# Altium footprint library Connector_Wire.PcbLib: 326 footprints (part 5 of 21)
Each footprint in its own frame and in the unit in brackets; x right, y up, seen from the top. Pads: shape width x height; smd on the part's side, far side on the other; paste and mask are expansions set on the pad; w line width, h text height; cw(c..) or ccw(c..) is an arc to the next point about the centre after c.
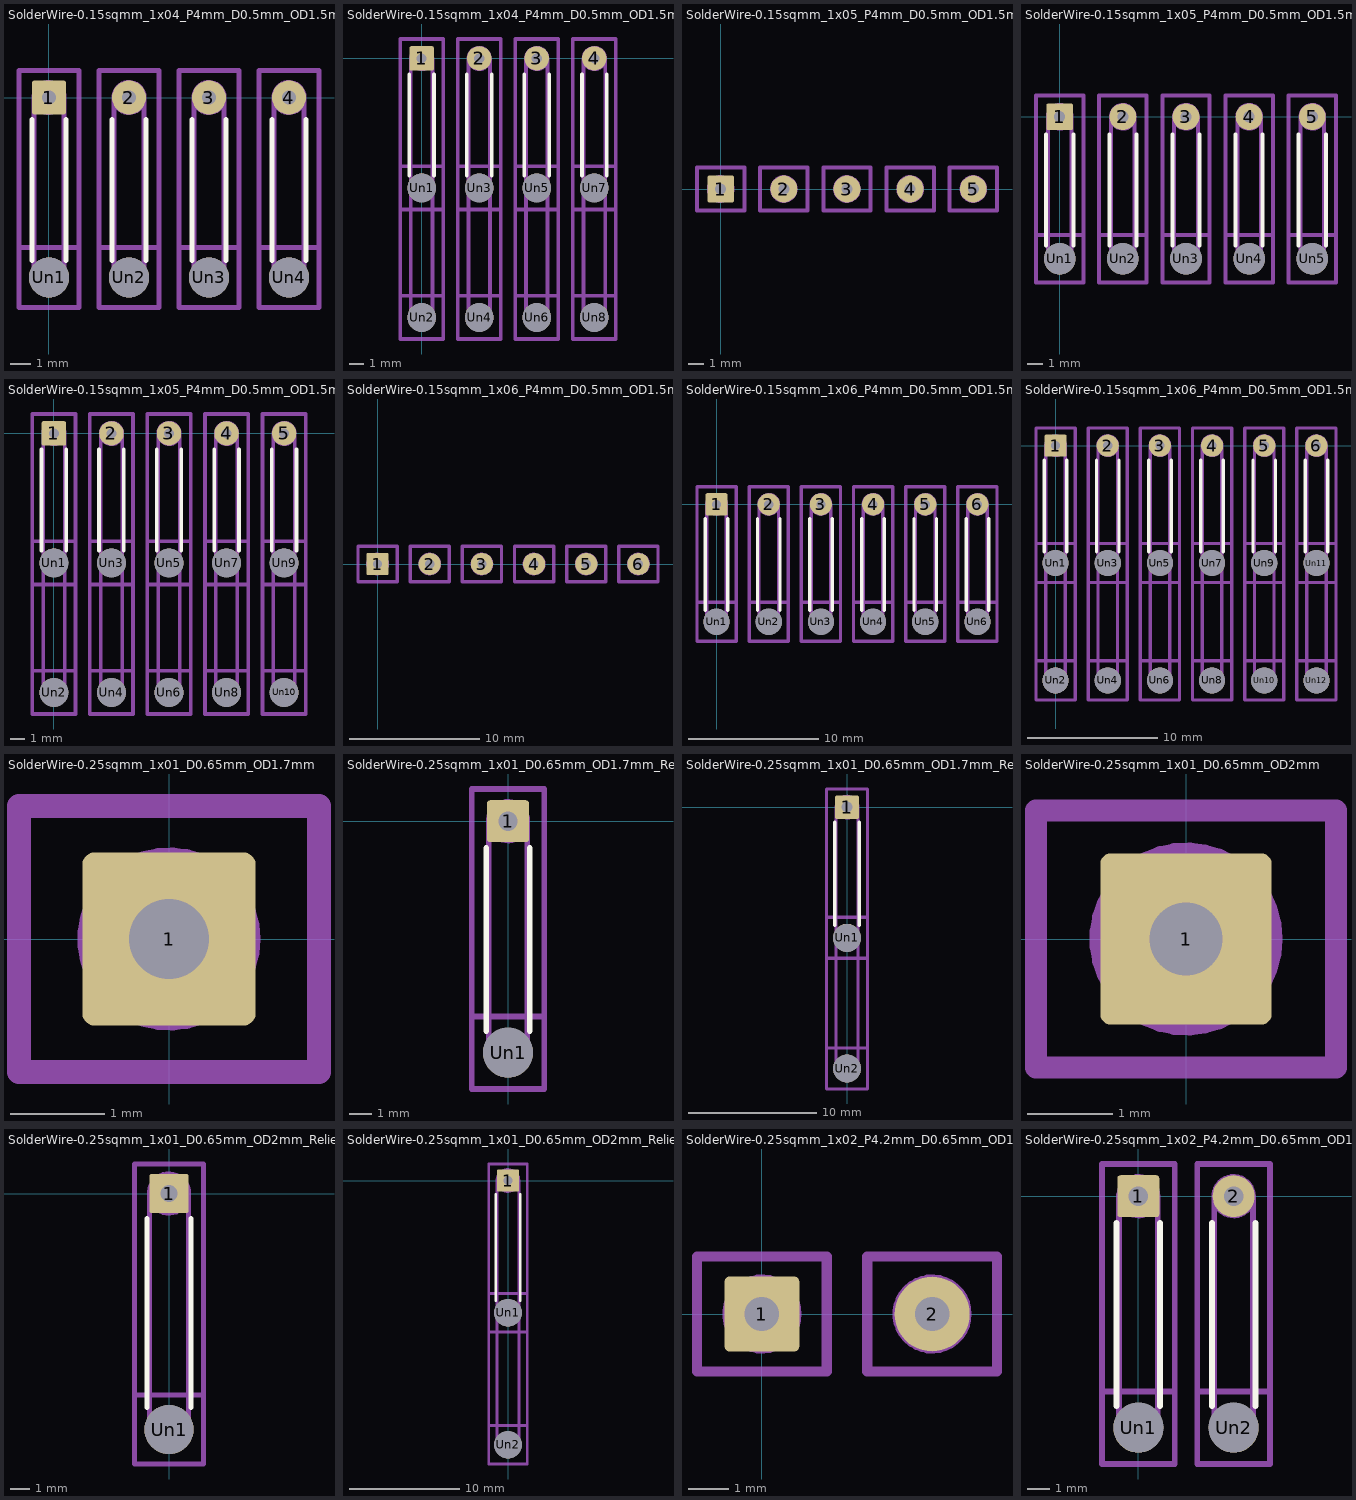
[diagram p4: the footprints below, top view; thin cyan lines are the x and y axes]

## SolderWire-0.15sqmm_1x04_P4mm_D0.5mm_OD1.5mm_Relief [mm]
pads (8):
  rrect15% 1.7x1.7 hole 0.7: 1(0,0)
  round 1.7 hole 0.7: 2(4,0) 3(8,0) 4(12,0)
  round 2 hole 2: Un1(0,-9) Un2(4,-9) Un3(8,-9) Un4(12,-9)
F.SilkS:
  lines w0.254: -0.86,-8.14 -0.86,-1.11 ; 0.86,-8.14 0.86,-1.11 ; 3.14,-8.14 3.14,-1.11 ; 4.86,-8.14 4.86,-1.11 ; 7.14,-8.14 7.14,-1.11 ; 8.86,-8.14 8.86,-1.11 ; 11.14,-8.14 11.14,-1.11 ; 12.86,-8.14 12.86,-1.11
Top Assembly:
  circle w0.254: c12,-9 r0.75
  circle w0.254: c12,0 r0.75
  circle w0.254: c8,-9 r0.75
  circle w0.254: c8,0 r0.75
  circle w0.254: c4,-9 r0.75
  circle w0.254: c4,0 r0.75
  circle w0.254: c0,-9 r0.75
  circle w0.254: c0,0 r0.75
  lines w0.254: -0.75,-9 -0.75,0 ; 0.75,-9 0.75,0 ; 3.25,-9 3.25,0 ; 4.75,-9 4.75,0 ; 7.25,-9 7.25,0 ; 8.75,-9 8.75,0 ; 11.25,-9 11.25,0 ; 12.75,-9 12.75,0
  text "'.Designator'" at 6.84,-8.547 h1
Top Courtyard:
  lines w0.254: -1.5,-10.5 1.5,-10.5 1.5,1.35 -1.5,1.35 -1.5,-10.5 ; 2.5,-10.5 5.5,-10.5 5.5,1.35 2.5,1.35 2.5,-10.5 ; 6.5,-10.5 9.5,-10.5 9.5,1.35 6.5,1.35 6.5,-10.5 ; 10.5,-10.5 13.5,-10.5 13.5,1.35 10.5,1.35 10.5,-10.5
Bottom Courtyard:
  lines w0.254: -1.5,-10.5 1.5,-10.5 1.5,-7.5 -1.5,-7.5 -1.5,-10.5 ; 2.5,-10.5 5.5,-10.5 5.5,-7.5 2.5,-7.5 2.5,-10.5 ; 6.5,-10.5 9.5,-10.5 9.5,-7.5 6.5,-7.5 6.5,-10.5 ; 10.5,-10.5 13.5,-10.5 13.5,-7.5 10.5,-7.5 10.5,-10.5
Top Designator:
  text ".Designator" at -1.618,-5.083 h1.52

## SolderWire-0.15sqmm_1x04_P4mm_D0.5mm_OD1.5mm_Relief2x [mm]
pads (12):
  rrect15% 1.7x1.7 hole 0.7: 1(0,0)
  round 1.7 hole 0.7: 2(4,0) 3(8,0) 4(12,0)
  round 2 hole 2: Un1(0,-9) Un2(0,-18) Un3(4,-9) Un4(4,-18) Un5(8,-9) Un6(8,-18) Un7(12,-9) Un8(12,-18)
F.SilkS:
  lines w0.254: -0.86,-8.14 -0.86,-1.11 ; 0.86,-8.14 0.86,-1.11 ; 3.14,-8.14 3.14,-1.11 ; 4.86,-8.14 4.86,-1.11 ; 7.14,-8.14 7.14,-1.11 ; 8.86,-8.14 8.86,-1.11 ; 11.14,-8.14 11.14,-1.11 ; 12.86,-8.14 12.86,-1.11
B.SilkS:
  lines w0.254: -0.86,-17.14 -0.86,-9.86 ; 0.86,-17.14 0.86,-9.86 ; 3.14,-17.14 3.14,-9.86 ; 4.86,-17.14 4.86,-9.86 ; 7.14,-17.14 7.14,-9.86 ; 8.86,-17.14 8.86,-9.86 ; 11.14,-17.14 11.14,-9.86 ; 12.86,-17.14 12.86,-9.86
Top Assembly:
  circle w0.254: c12,-18 r0.75
  circle w0.254: c12,-9 r0.75
  circle w0.254: c12,0 r0.75
  circle w0.254: c8,-18 r0.75
  circle w0.254: c8,-9 r0.75
  circle w0.254: c8,0 r0.75
  circle w0.254: c4,-18 r0.75
  circle w0.254: c4,-9 r0.75
  circle w0.254: c4,0 r0.75
  circle w0.254: c0,-18 r0.75
  circle w0.254: c0,-9 r0.75
  circle w0.254: c0,0 r0.75
  lines w0.254: -0.75,-9 -0.75,0 ; 0.75,-9 0.75,0 ; 3.25,-9 3.25,0 ; 4.75,-9 4.75,0 ; 7.25,-9 7.25,0 ; 8.75,-9 8.75,0 ; 11.25,-9 11.25,0 ; 12.75,-9 12.75,0
  text "'.Designator'" at 6.84,-8.547 h1
Bottom Assembly:
  circle w0.254: c12,-18 r0.75
  circle w0.254: c12,-9 r0.75
  circle w0.254: c8,-18 r0.75
  circle w0.254: c8,-9 r0.75
  circle w0.254: c4,-18 r0.75
  circle w0.254: c4,-9 r0.75
  circle w0.254: c0,-18 r0.75
  circle w0.254: c0,-9 r0.75
  lines w0.254: -0.75,-18 -0.75,-9 ; 0.75,-18 0.75,-9 ; 3.25,-18 3.25,-9 ; 4.75,-18 4.75,-9 ; 7.25,-18 7.25,-9 ; 8.75,-18 8.75,-9 ; 11.25,-18 11.25,-9 ; 12.75,-18 12.75,-9
Top Courtyard:
  lines w0.254: -1.5,-19.5 1.5,-19.5 1.5,-16.5 -1.5,-16.5 -1.5,-19.5 ; -1.5,-10.5 1.5,-10.5 1.5,1.35 -1.5,1.35 -1.5,-10.5 ; 2.5,-19.5 5.5,-19.5 5.5,-16.5 2.5,-16.5 2.5,-19.5 ; 2.5,-10.5 5.5,-10.5 5.5,1.35 2.5,1.35 2.5,-10.5 ; 6.5,-19.5 9.5,-19.5 9.5,-16.5 6.5,-16.5 6.5,-19.5 ; 6.5,-10.5 9.5,-10.5 9.5,1.35 6.5,1.35 6.5,-10.5 ; 10.5,-19.5 13.5,-19.5 13.5,-16.5 10.5,-16.5 10.5,-19.5 ; 10.5,-10.5 13.5,-10.5 13.5,1.35 10.5,1.35 10.5,-10.5
Bottom Courtyard:
  lines w0.254: -1.5,-19.5 1.5,-19.5 1.5,-7.5 -1.5,-7.5 -1.5,-19.5 ; 2.5,-19.5 5.5,-19.5 5.5,-7.5 2.5,-7.5 2.5,-19.5 ; 6.5,-19.5 9.5,-19.5 9.5,-7.5 6.5,-7.5 6.5,-19.5 ; 10.5,-19.5 13.5,-19.5 13.5,-7.5 10.5,-7.5 10.5,-19.5
Top Designator:
  text ".Designator" at -1.618,-9.583 h1.52

## SolderWire-0.15sqmm_1x05_P4mm_D0.5mm_OD1.5mm [mm]
pads (5):
  rrect15% 1.7x1.7 hole 0.7: 1(0,0)
  round 1.7 hole 0.7: 2(4,0) 3(8,0) 4(12,0) 5(16,0)
Top Assembly:
  circle w0.254: c16,0 r0.75
  circle w0.254: c12,0 r0.75
  circle w0.254: c8,0 r0.75
  circle w0.254: c4,0 r0.75
  circle w0.254: c0,0 r0.75
  text "'.Designator'" at 6.459,-0.322 h0.38
Top Courtyard:
  lines w0.254: -1.5,-1.35 1.5,-1.35 1.5,1.35 -1.5,1.35 -1.5,-1.35 ; 2.5,-1.35 5.5,-1.35 5.5,1.35 2.5,1.35 2.5,-1.35 ; 6.5,-1.35 9.5,-1.35 9.5,1.35 6.5,1.35 6.5,-1.35 ; 10.5,-1.35 13.5,-1.35 13.5,1.35 10.5,1.35 10.5,-1.35 ; 14.5,-1.35 17.5,-1.35 17.5,1.35 14.5,1.35 14.5,-1.35
Top Designator:
  text ".Designator" at 0.382,-0.508 h1.52

## SolderWire-0.15sqmm_1x05_P4mm_D0.5mm_OD1.5mm_Relief [mm]
pads (10):
  rrect15% 1.7x1.7 hole 0.7: 1(0,0)
  round 1.7 hole 0.7: 2(4,0) 3(8,0) 4(12,0) 5(16,0)
  round 2 hole 2: Un1(0,-9) Un2(4,-9) Un3(8,-9) Un4(12,-9) Un5(16,-9)
F.SilkS:
  lines w0.254: -0.86,-8.14 -0.86,-1.11 ; 0.86,-8.14 0.86,-1.11 ; 3.14,-8.14 3.14,-1.11 ; 4.86,-8.14 4.86,-1.11 ; 7.14,-8.14 7.14,-1.11 ; 8.86,-8.14 8.86,-1.11 ; 11.14,-8.14 11.14,-1.11 ; 12.86,-8.14 12.86,-1.11 ; 15.14,-8.14 15.14,-1.11 ; 16.86,-8.14 16.86,-1.11
Top Assembly:
  circle w0.254: c16,-9 r0.75
  circle w0.254: c16,0 r0.75
  circle w0.254: c12,-9 r0.75
  circle w0.254: c12,0 r0.75
  circle w0.254: c8,-9 r0.75
  circle w0.254: c8,0 r0.75
  circle w0.254: c4,-9 r0.75
  circle w0.254: c4,0 r0.75
  circle w0.254: c0,-9 r0.75
  circle w0.254: c0,0 r0.75
  lines w0.254: -0.75,-9 -0.75,0 ; 0.75,-9 0.75,0 ; 3.25,-9 3.25,0 ; 4.75,-9 4.75,0 ; 7.25,-9 7.25,0 ; 8.75,-9 8.75,0 ; 11.25,-9 11.25,0 ; 12.75,-9 12.75,0 ; 15.25,-9 15.25,0 ; 16.75,-9 16.75,0
  text "'.Designator'" at 8.84,-8.547 h1
Top Courtyard:
  lines w0.254: -1.5,-10.5 1.5,-10.5 1.5,1.35 -1.5,1.35 -1.5,-10.5 ; 2.5,-10.5 5.5,-10.5 5.5,1.35 2.5,1.35 2.5,-10.5 ; 6.5,-10.5 9.5,-10.5 9.5,1.35 6.5,1.35 6.5,-10.5 ; 10.5,-10.5 13.5,-10.5 13.5,1.35 10.5,1.35 10.5,-10.5 ; 14.5,-10.5 17.5,-10.5 17.5,1.35 14.5,1.35 14.5,-10.5
Bottom Courtyard:
  lines w0.254: -1.5,-10.5 1.5,-10.5 1.5,-7.5 -1.5,-7.5 -1.5,-10.5 ; 2.5,-10.5 5.5,-10.5 5.5,-7.5 2.5,-7.5 2.5,-10.5 ; 6.5,-10.5 9.5,-10.5 9.5,-7.5 6.5,-7.5 6.5,-10.5 ; 10.5,-10.5 13.5,-10.5 13.5,-7.5 10.5,-7.5 10.5,-10.5 ; 14.5,-10.5 17.5,-10.5 17.5,-7.5 14.5,-7.5 14.5,-10.5
Top Designator:
  text ".Designator" at 0.382,-5.083 h1.52

## SolderWire-0.15sqmm_1x05_P4mm_D0.5mm_OD1.5mm_Relief2x [mm]
pads (15):
  rrect15% 1.7x1.7 hole 0.7: 1(0,0)
  round 1.7 hole 0.7: 2(4,0) 3(8,0) 4(12,0) 5(16,0)
  round 2 hole 2: Un1(0,-9) Un2(0,-18) Un3(4,-9) Un4(4,-18) Un5(8,-9) Un6(8,-18) Un7(12,-9) Un8(12,-18) Un9(16,-9) Un10(16,-18)
F.SilkS:
  lines w0.254: -0.86,-8.14 -0.86,-1.11 ; 0.86,-8.14 0.86,-1.11 ; 3.14,-8.14 3.14,-1.11 ; 4.86,-8.14 4.86,-1.11 ; 7.14,-8.14 7.14,-1.11 ; 8.86,-8.14 8.86,-1.11 ; 11.14,-8.14 11.14,-1.11 ; 12.86,-8.14 12.86,-1.11 ; 15.14,-8.14 15.14,-1.11 ; 16.86,-8.14 16.86,-1.11
B.SilkS:
  lines w0.254: -0.86,-17.14 -0.86,-9.86 ; 0.86,-17.14 0.86,-9.86 ; 3.14,-17.14 3.14,-9.86 ; 4.86,-17.14 4.86,-9.86 ; 7.14,-17.14 7.14,-9.86 ; 8.86,-17.14 8.86,-9.86 ; 11.14,-17.14 11.14,-9.86 ; 12.86,-17.14 12.86,-9.86 ; 15.14,-17.14 15.14,-9.86 ; 16.86,-17.14 16.86,-9.86
Top Assembly:
  circle w0.254: c16,-18 r0.75
  circle w0.254: c16,-9 r0.75
  circle w0.254: c16,0 r0.75
  circle w0.254: c12,-18 r0.75
  circle w0.254: c12,-9 r0.75
  circle w0.254: c12,0 r0.75
  circle w0.254: c8,-18 r0.75
  circle w0.254: c8,-9 r0.75
  circle w0.254: c8,0 r0.75
  circle w0.254: c4,-18 r0.75
  circle w0.254: c4,-9 r0.75
  circle w0.254: c4,0 r0.75
  circle w0.254: c0,-18 r0.75
  circle w0.254: c0,-9 r0.75
  circle w0.254: c0,0 r0.75
  lines w0.254: -0.75,-9 -0.75,0 ; 0.75,-9 0.75,0 ; 3.25,-9 3.25,0 ; 4.75,-9 4.75,0 ; 7.25,-9 7.25,0 ; 8.75,-9 8.75,0 ; 11.25,-9 11.25,0 ; 12.75,-9 12.75,0 ; 15.25,-9 15.25,0 ; 16.75,-9 16.75,0
  text "'.Designator'" at 8.84,-8.547 h1
Bottom Assembly:
  circle w0.254: c16,-18 r0.75
  circle w0.254: c16,-9 r0.75
  circle w0.254: c12,-18 r0.75
  circle w0.254: c12,-9 r0.75
  circle w0.254: c8,-18 r0.75
  circle w0.254: c8,-9 r0.75
  circle w0.254: c4,-18 r0.75
  circle w0.254: c4,-9 r0.75
  circle w0.254: c0,-18 r0.75
  circle w0.254: c0,-9 r0.75
  lines w0.254: -0.75,-18 -0.75,-9 ; 0.75,-18 0.75,-9 ; 3.25,-18 3.25,-9 ; 4.75,-18 4.75,-9 ; 7.25,-18 7.25,-9 ; 8.75,-18 8.75,-9 ; 11.25,-18 11.25,-9 ; 12.75,-18 12.75,-9 ; 15.25,-18 15.25,-9 ; 16.75,-18 16.75,-9
Top Courtyard:
  lines w0.254: -1.5,-19.5 1.5,-19.5 1.5,-16.5 -1.5,-16.5 -1.5,-19.5 ; -1.5,-10.5 1.5,-10.5 1.5,1.35 -1.5,1.35 -1.5,-10.5 ; 2.5,-19.5 5.5,-19.5 5.5,-16.5 2.5,-16.5 2.5,-19.5 ; 2.5,-10.5 5.5,-10.5 5.5,1.35 2.5,1.35 2.5,-10.5 ; 6.5,-19.5 9.5,-19.5 9.5,-16.5 6.5,-16.5 6.5,-19.5 ; 6.5,-10.5 9.5,-10.5 9.5,1.35 6.5,1.35 6.5,-10.5 ; 10.5,-19.5 13.5,-19.5 13.5,-16.5 10.5,-16.5 10.5,-19.5 ; 10.5,-10.5 13.5,-10.5 13.5,1.35 10.5,1.35 10.5,-10.5 ; 14.5,-19.5 17.5,-19.5 17.5,-16.5 14.5,-16.5 14.5,-19.5 ; 14.5,-10.5 17.5,-10.5 17.5,1.35 14.5,1.35 14.5,-10.5
Bottom Courtyard:
  lines w0.254: -1.5,-19.5 1.5,-19.5 1.5,-7.5 -1.5,-7.5 -1.5,-19.5 ; 2.5,-19.5 5.5,-19.5 5.5,-7.5 2.5,-7.5 2.5,-19.5 ; 6.5,-19.5 9.5,-19.5 9.5,-7.5 6.5,-7.5 6.5,-19.5 ; 10.5,-19.5 13.5,-19.5 13.5,-7.5 10.5,-7.5 10.5,-19.5 ; 14.5,-19.5 17.5,-19.5 17.5,-7.5 14.5,-7.5 14.5,-19.5
Top Designator:
  text ".Designator" at 0.382,-9.583 h1.52

## SolderWire-0.15sqmm_1x06_P4mm_D0.5mm_OD1.5mm [mm]
pads (6):
  rrect15% 1.7x1.7 hole 0.7: 1(0,0)
  round 1.7 hole 0.7: 2(4,0) 3(8,0) 4(12,0) 5(16,0) 6(20,0)
Top Assembly:
  circle w0.254: c20,0 r0.75
  circle w0.254: c16,0 r0.75
  circle w0.254: c12,0 r0.75
  circle w0.254: c8,0 r0.75
  circle w0.254: c4,0 r0.75
  circle w0.254: c0,0 r0.75
  text "'.Designator'" at 10.569,-2.75 h0.68
Top Courtyard:
  lines w0.254: -1.5,-1.35 1.5,-1.35 1.5,1.35 -1.5,1.35 -1.5,-1.35 ; 2.5,-1.35 5.5,-1.35 5.5,1.35 2.5,1.35 2.5,-1.35 ; 6.5,-1.35 9.5,-1.35 9.5,1.35 6.5,1.35 6.5,-1.35 ; 10.5,-1.35 13.5,-1.35 13.5,1.35 10.5,1.35 10.5,-1.35 ; 14.5,-1.35 17.5,-1.35 17.5,1.35 14.5,1.35 14.5,-1.35 ; 18.5,-1.35 21.5,-1.35 21.5,1.35 18.5,1.35 18.5,-1.35
Top Designator:
  text ".Designator" at 2.382,-0.608 h1.52

## SolderWire-0.15sqmm_1x06_P4mm_D0.5mm_OD1.5mm_Relief [mm]
pads (12):
  rrect15% 1.7x1.7 hole 0.7: 1(0,0)
  round 1.7 hole 0.7: 2(4,0) 3(8,0) 4(12,0) 5(16,0) 6(20,0)
  round 2 hole 2: Un1(0,-9) Un2(4,-9) Un3(8,-9) Un4(12,-9) Un5(16,-9) Un6(20,-9)
F.SilkS:
  lines w0.254: -0.86,-8.14 -0.86,-1.11 ; 0.86,-8.14 0.86,-1.11 ; 3.14,-8.14 3.14,-1.11 ; 4.86,-8.14 4.86,-1.11 ; 7.14,-8.14 7.14,-1.11 ; 8.86,-8.14 8.86,-1.11 ; 11.14,-8.14 11.14,-1.11 ; 12.86,-8.14 12.86,-1.11 ; 15.14,-8.14 15.14,-1.11 ; 16.86,-8.14 16.86,-1.11 ; 19.14,-8.14 19.14,-1.11 ; 20.86,-8.14 20.86,-1.11
Top Assembly:
  circle w0.254: c20,-9 r0.75
  circle w0.254: c20,0 r0.75
  circle w0.254: c16,-9 r0.75
  circle w0.254: c16,0 r0.75
  circle w0.254: c12,-9 r0.75
  circle w0.254: c12,0 r0.75
  circle w0.254: c8,-9 r0.75
  circle w0.254: c8,0 r0.75
  circle w0.254: c4,-9 r0.75
  circle w0.254: c4,0 r0.75
  circle w0.254: c0,-9 r0.75
  circle w0.254: c0,0 r0.75
  lines w0.254: -0.75,-9 -0.75,0 ; 0.75,-9 0.75,0 ; 3.25,-9 3.25,0 ; 4.75,-9 4.75,0 ; 7.25,-9 7.25,0 ; 8.75,-9 8.75,0 ; 11.25,-9 11.25,0 ; 12.75,-9 12.75,0 ; 15.25,-9 15.25,0 ; 16.75,-9 16.75,0 ; 19.25,-9 19.25,0 ; 20.75,-9 20.75,0
  text "'.Designator'" at 10.84,-8.547 h1
Top Courtyard:
  lines w0.254: -1.5,-10.5 1.5,-10.5 1.5,1.35 -1.5,1.35 -1.5,-10.5 ; 2.5,-10.5 5.5,-10.5 5.5,1.35 2.5,1.35 2.5,-10.5 ; 6.5,-10.5 9.5,-10.5 9.5,1.35 6.5,1.35 6.5,-10.5 ; 10.5,-10.5 13.5,-10.5 13.5,1.35 10.5,1.35 10.5,-10.5 ; 14.5,-10.5 17.5,-10.5 17.5,1.35 14.5,1.35 14.5,-10.5 ; 18.5,-10.5 21.5,-10.5 21.5,1.35 18.5,1.35 18.5,-10.5
Bottom Courtyard:
  lines w0.254: -1.5,-10.5 1.5,-10.5 1.5,-7.5 -1.5,-7.5 -1.5,-10.5 ; 2.5,-10.5 5.5,-10.5 5.5,-7.5 2.5,-7.5 2.5,-10.5 ; 6.5,-10.5 9.5,-10.5 9.5,-7.5 6.5,-7.5 6.5,-10.5 ; 10.5,-10.5 13.5,-10.5 13.5,-7.5 10.5,-7.5 10.5,-10.5 ; 14.5,-10.5 17.5,-10.5 17.5,-7.5 14.5,-7.5 14.5,-10.5 ; 18.5,-10.5 21.5,-10.5 21.5,-7.5 18.5,-7.5 18.5,-10.5
Top Designator:
  text ".Designator" at 2.382,-5.083 h1.52

## SolderWire-0.15sqmm_1x06_P4mm_D0.5mm_OD1.5mm_Relief2x [mm]
pads (18):
  rrect15% 1.7x1.7 hole 0.7: 1(0,0)
  round 1.7 hole 0.7: 2(4,0) 3(8,0) 4(12,0) 5(16,0) 6(20,0)
  round 2 hole 2: Un1(0,-9) Un2(0,-18) Un3(4,-9) Un4(4,-18) Un5(8,-9) Un6(8,-18) Un7(12,-9) Un8(12,-18) Un9(16,-9) Un10(16,-18) Un11(20,-9) Un12(20,-18)
F.SilkS:
  lines w0.254: -0.86,-8.14 -0.86,-1.11 ; 0.86,-8.14 0.86,-1.11 ; 3.14,-8.14 3.14,-1.11 ; 4.86,-8.14 4.86,-1.11 ; 7.14,-8.14 7.14,-1.11 ; 8.86,-8.14 8.86,-1.11 ; 11.14,-8.14 11.14,-1.11 ; 12.86,-8.14 12.86,-1.11 ; 15.14,-8.14 15.14,-1.11 ; 16.86,-8.14 16.86,-1.11 ; 19.14,-8.14 19.14,-1.11 ; 20.86,-8.14 20.86,-1.11
B.SilkS:
  lines w0.254: -0.86,-17.14 -0.86,-9.86 ; 0.86,-17.14 0.86,-9.86 ; 3.14,-17.14 3.14,-9.86 ; 4.86,-17.14 4.86,-9.86 ; 7.14,-17.14 7.14,-9.86 ; 8.86,-17.14 8.86,-9.86 ; 11.14,-17.14 11.14,-9.86 ; 12.86,-17.14 12.86,-9.86 ; 15.14,-17.14 15.14,-9.86 ; 16.86,-17.14 16.86,-9.86 ; 19.14,-17.14 19.14,-9.86 ; 20.86,-17.14 20.86,-9.86
Top Assembly:
  circle w0.254: c20,-18 r0.75
  circle w0.254: c20,-9 r0.75
  circle w0.254: c20,0 r0.75
  circle w0.254: c16,-18 r0.75
  circle w0.254: c16,-9 r0.75
  circle w0.254: c16,0 r0.75
  circle w0.254: c12,-18 r0.75
  circle w0.254: c12,-9 r0.75
  circle w0.254: c12,0 r0.75
  circle w0.254: c8,-18 r0.75
  circle w0.254: c8,-9 r0.75
  circle w0.254: c8,0 r0.75
  circle w0.254: c4,-18 r0.75
  circle w0.254: c4,-9 r0.75
  circle w0.254: c4,0 r0.75
  circle w0.254: c0,-18 r0.75
  circle w0.254: c0,-9 r0.75
  circle w0.254: c0,0 r0.75
  lines w0.254: -0.75,-9 -0.75,0 ; 0.75,-9 0.75,0 ; 3.25,-9 3.25,0 ; 4.75,-9 4.75,0 ; 7.25,-9 7.25,0 ; 8.75,-9 8.75,0 ; 11.25,-9 11.25,0 ; 12.75,-9 12.75,0 ; 15.25,-9 15.25,0 ; 16.75,-9 16.75,0 ; 19.25,-9 19.25,0 ; 20.75,-9 20.75,0
  text "'.Designator'" at 10.84,-8.547 h1
Bottom Assembly:
  circle w0.254: c20,-18 r0.75
  circle w0.254: c20,-9 r0.75
  circle w0.254: c16,-18 r0.75
  circle w0.254: c16,-9 r0.75
  circle w0.254: c12,-18 r0.75
  circle w0.254: c12,-9 r0.75
  circle w0.254: c8,-18 r0.75
  circle w0.254: c8,-9 r0.75
  circle w0.254: c4,-18 r0.75
  circle w0.254: c4,-9 r0.75
  circle w0.254: c0,-18 r0.75
  circle w0.254: c0,-9 r0.75
  lines w0.254: -0.75,-18 -0.75,-9 ; 0.75,-18 0.75,-9 ; 3.25,-18 3.25,-9 ; 4.75,-18 4.75,-9 ; 7.25,-18 7.25,-9 ; 8.75,-18 8.75,-9 ; 11.25,-18 11.25,-9 ; 12.75,-18 12.75,-9 ; 15.25,-18 15.25,-9 ; 16.75,-18 16.75,-9 ; 19.25,-18 19.25,-9 ; 20.75,-18 20.75,-9
Top Courtyard:
  lines w0.254: -1.5,-19.5 1.5,-19.5 1.5,-16.5 -1.5,-16.5 -1.5,-19.5 ; -1.5,-10.5 1.5,-10.5 1.5,1.35 -1.5,1.35 -1.5,-10.5 ; 2.5,-19.5 5.5,-19.5 5.5,-16.5 2.5,-16.5 2.5,-19.5 ; 2.5,-10.5 5.5,-10.5 5.5,1.35 2.5,1.35 2.5,-10.5 ; 6.5,-19.5 9.5,-19.5 9.5,-16.5 6.5,-16.5 6.5,-19.5 ; 6.5,-10.5 9.5,-10.5 9.5,1.35 6.5,1.35 6.5,-10.5 ; 10.5,-19.5 13.5,-19.5 13.5,-16.5 10.5,-16.5 10.5,-19.5 ; 10.5,-10.5 13.5,-10.5 13.5,1.35 10.5,1.35 10.5,-10.5 ; 14.5,-19.5 17.5,-19.5 17.5,-16.5 14.5,-16.5 14.5,-19.5 ; 14.5,-10.5 17.5,-10.5 17.5,1.35 14.5,1.35 14.5,-10.5 ; 18.5,-19.5 21.5,-19.5 21.5,-16.5 18.5,-16.5 18.5,-19.5 ; 18.5,-10.5 21.5,-10.5 21.5,1.35 18.5,1.35 18.5,-10.5
Bottom Courtyard:
  lines w0.254: -1.5,-19.5 1.5,-19.5 1.5,-7.5 -1.5,-7.5 -1.5,-19.5 ; 2.5,-19.5 5.5,-19.5 5.5,-7.5 2.5,-7.5 2.5,-19.5 ; 6.5,-19.5 9.5,-19.5 9.5,-7.5 6.5,-7.5 6.5,-19.5 ; 10.5,-19.5 13.5,-19.5 13.5,-7.5 10.5,-7.5 10.5,-19.5 ; 14.5,-19.5 17.5,-19.5 17.5,-7.5 14.5,-7.5 14.5,-19.5 ; 18.5,-19.5 21.5,-19.5 21.5,-7.5 18.5,-7.5 18.5,-19.5
Top Designator:
  text ".Designator" at 2.382,-9.583 h1.52

## SolderWire-0.25sqmm_1x01_D0.65mm_OD1.7mm [mm]
pads (1):
  rrect14% 1.85x1.85 hole 0.85: 1(0,0)
Top Assembly:
  circle w0.254: c0,0 r0.85
  text "'.Designator'" at -1.697,-0.35 h0.42
Top Courtyard:
  lines w0.254: -1.6,-1.42 1.6,-1.42 1.6,1.42 -1.6,1.42 -1.6,-1.42
Top Designator:
  text ".Designator" at -7.632,-0.508 h1.52

## SolderWire-0.25sqmm_1x01_D0.65mm_OD1.7mm_Relief [mm]
pads (2):
  rrect14% 1.85x1.85 hole 0.85: 1(0,0)
  round 2.2 hole 2.2: Un1(0,-10.2)
F.SilkS:
  lines w0.254: -0.96,-9.24 -0.96,-1.185 ; 0.96,-9.24 0.96,-1.185
Top Assembly:
  circle w0.254: c0,-10.2 r0.85
  circle w0.254: c0,0 r0.85
  lines w0.254: -0.85,-10.2 -0.85,0 ; 0.85,-10.2 0.85,0
  text "'.Designator'" at 0.84,-9.147 h1
Top Courtyard:
  lines w0.254: -1.6,-11.8 1.6,-11.8 1.6,1.42 -1.6,1.42 -1.6,-11.8
Bottom Courtyard:
  lines w0.254: -1.6,-11.8 1.6,-11.8 1.6,-8.6 -1.6,-8.6 -1.6,-11.8
Top Designator:
  text ".Designator" at -7.618,-5.698 h1.52

## SolderWire-0.25sqmm_1x01_D0.65mm_OD1.7mm_Relief2x [mm]
pads (3):
  rrect14% 1.85x1.85 hole 0.85: 1(0,0)
  round 2.2 hole 2.2: Un1(0,-10.2) Un2(0,-20.4)
F.SilkS:
  lines w0.254: -0.96,-9.24 -0.96,-1.185 ; 0.96,-9.24 0.96,-1.185
B.SilkS:
  lines w0.254: -0.96,-19.44 -0.96,-11.16 ; 0.96,-19.44 0.96,-11.16
Top Assembly:
  circle w0.254: c0,-20.4 r0.85
  circle w0.254: c0,-10.2 r0.85
  circle w0.254: c0,0 r0.85
  lines w0.254: -0.85,-10.2 -0.85,0 ; 0.85,-10.2 0.85,0
  text "'.Designator'" at 0.84,-9.147 h1
Bottom Assembly:
  circle w0.254: c0,-20.4 r0.85
  circle w0.254: c0,-10.2 r0.85
  lines w0.254: -0.85,-20.4 -0.85,-10.2 ; 0.85,-20.4 0.85,-10.2
Top Courtyard:
  lines w0.254: -1.6,-22 1.6,-22 1.6,-18.8 -1.6,-18.8 -1.6,-22 ; -1.6,-11.8 1.6,-11.8 1.6,1.42 -1.6,1.42 -1.6,-11.8
Bottom Courtyard:
  lines w0.254: -1.6,-22 1.6,-22 1.6,-8.6 -1.6,-8.6 -1.6,-22
Top Designator:
  text ".Designator" at -7.618,-10.798 h1.52

## SolderWire-0.25sqmm_1x01_D0.65mm_OD2mm [mm]
pads (1):
  rrect12% 2x2 hole 0.85: 1(0,0)
Top Assembly:
  circle w0.254: c0,0 r1
  text "'.Designator'" at -2.028,-0.425 h0.5
Top Courtyard:
  lines w0.254: -1.75,-1.5 1.75,-1.5 1.75,1.5 -1.75,1.5 -1.75,-1.5
Top Designator:
  text ".Designator" at -7.698,-0.508 h1.52

## SolderWire-0.25sqmm_1x01_D0.65mm_OD2mm_Relief [mm]
pads (2):
  rrect12% 2x2 hole 0.85: 1(0,0)
  round 2.5 hole 2.5: Un1(0,-12)
F.SilkS:
  lines w0.254: -1.11,-10.89 -1.11,-1.26 ; 1.11,-10.89 1.11,-1.26
Top Assembly:
  circle w0.254: c0,-12 r1
  circle w0.254: c0,0 r1
  lines w0.254: -1,-12 -1,0 ; 1,-12 1,0
  text "'.Designator'" at 0.84,-10.047 h1
Top Courtyard:
  lines w0.254: -1.75,-13.75 1.75,-13.75 1.75,1.5 -1.75,1.5 -1.75,-13.75
Bottom Courtyard:
  lines w0.254: -1.75,-13.75 1.75,-13.75 1.75,-10.25 -1.75,-10.25 -1.75,-13.75
Top Designator:
  text ".Designator" at -7.618,-6.633 h1.52

## SolderWire-0.25sqmm_1x01_D0.65mm_OD2mm_Relief2x [mm]
pads (3):
  rrect12% 2x2 hole 0.85: 1(0,0)
  round 2.5 hole 2.5: Un1(0,-12) Un2(0,-24)
F.SilkS:
  lines w0.254: -1.11,-10.89 -1.11,-1.26 ; 1.11,-10.89 1.11,-1.26
B.SilkS:
  lines w0.254: -1.11,-22.89 -1.11,-13.11 ; 1.11,-22.89 1.11,-13.11
Top Assembly:
  circle w0.254: c0,-24 r1
  circle w0.254: c0,-12 r1
  circle w0.254: c0,0 r1
  lines w0.254: -1,-12 -1,0 ; 1,-12 1,0
  text "'.Designator'" at 0.84,-10.047 h1
Bottom Assembly:
  circle w0.254: c0,-24 r1
  circle w0.254: c0,-12 r1
  lines w0.254: -1,-24 -1,-12 ; 1,-24 1,-12
Top Courtyard:
  lines w0.254: -1.75,-25.75 1.75,-25.75 1.75,-22.25 -1.75,-22.25 -1.75,-25.75 ; -1.75,-13.75 1.75,-13.75 1.75,1.5 -1.75,1.5 -1.75,-13.75
Bottom Courtyard:
  lines w0.254: -1.75,-25.75 1.75,-25.75 1.75,-10.25 -1.75,-10.25 -1.75,-25.75
Top Designator:
  text ".Designator" at -7.618,-12.633 h1.52

## SolderWire-0.25sqmm_1x02_P4.2mm_D0.65mm_OD1.7mm [mm]
pads (2):
  rrect14% 1.85x1.85 hole 0.85: 1(0,0)
  round 1.85 hole 0.85: 2(4.2,0)
Top Assembly:
  circle w0.254: c4.2,0 r0.85
  circle w0.254: c0,0 r0.85
  text "'.Designator'" at 2.7,-2.877 h0.71
Top Courtyard:
  lines w0.254: -1.6,-1.42 1.6,-1.42 1.6,1.42 -1.6,1.42 -1.6,-1.42 ; 2.6,-1.42 5.8,-1.42 5.8,1.42 2.6,1.42 2.6,-1.42
Top Designator:
  text ".Designator" at -5.518,-0.618 h1.52

## SolderWire-0.25sqmm_1x02_P4.2mm_D0.65mm_OD1.7mm_Relief [mm]
pads (4):
  rrect14% 1.85x1.85 hole 0.85: 1(0,0)
  round 1.85 hole 0.85: 2(4.2,0)
  round 2.2 hole 2.2: Un1(0,-10.2) Un2(4.2,-10.2)
F.SilkS:
  lines w0.254: -0.96,-9.24 -0.96,-1.185 ; 0.96,-9.24 0.96,-1.185 ; 3.24,-9.24 3.24,-1.185 ; 5.16,-9.24 5.16,-1.185
Top Assembly:
  circle w0.254: c4.2,-10.2 r0.85
  circle w0.254: c4.2,0 r0.85
  circle w0.254: c0,-10.2 r0.85
  circle w0.254: c0,0 r0.85
  lines w0.254: -0.85,-10.2 -0.85,0 ; 0.85,-10.2 0.85,0 ; 3.35,-10.2 3.35,0 ; 5.05,-10.2 5.05,0
  text "'.Designator'" at 2.94,-9.147 h1
Top Courtyard:
  lines w0.254: -1.6,-11.8 1.6,-11.8 1.6,1.42 -1.6,1.42 -1.6,-11.8 ; 2.6,-11.8 5.8,-11.8 5.8,1.42 2.6,1.42 2.6,-11.8
Bottom Courtyard:
  lines w0.254: -1.6,-11.8 1.6,-11.8 1.6,-8.6 -1.6,-8.6 -1.6,-11.8 ; 2.6,-11.8 5.8,-11.8 5.8,-8.6 2.6,-8.6 2.6,-11.8
Top Designator:
  text ".Designator" at -5.518,-5.698 h1.52